# Altium footprint library PcbLib2.PcbLib: 11 footprints
Each footprint in its own frame and in the unit in brackets; x right, y up, seen from the top. Pads: shape width x height; smd on the part's side, far side on the other; paste and mask are expansions set on the pad; w line width, h text height; cw(c..) or ccw(c..) is an arc to the next point about the centre after c.
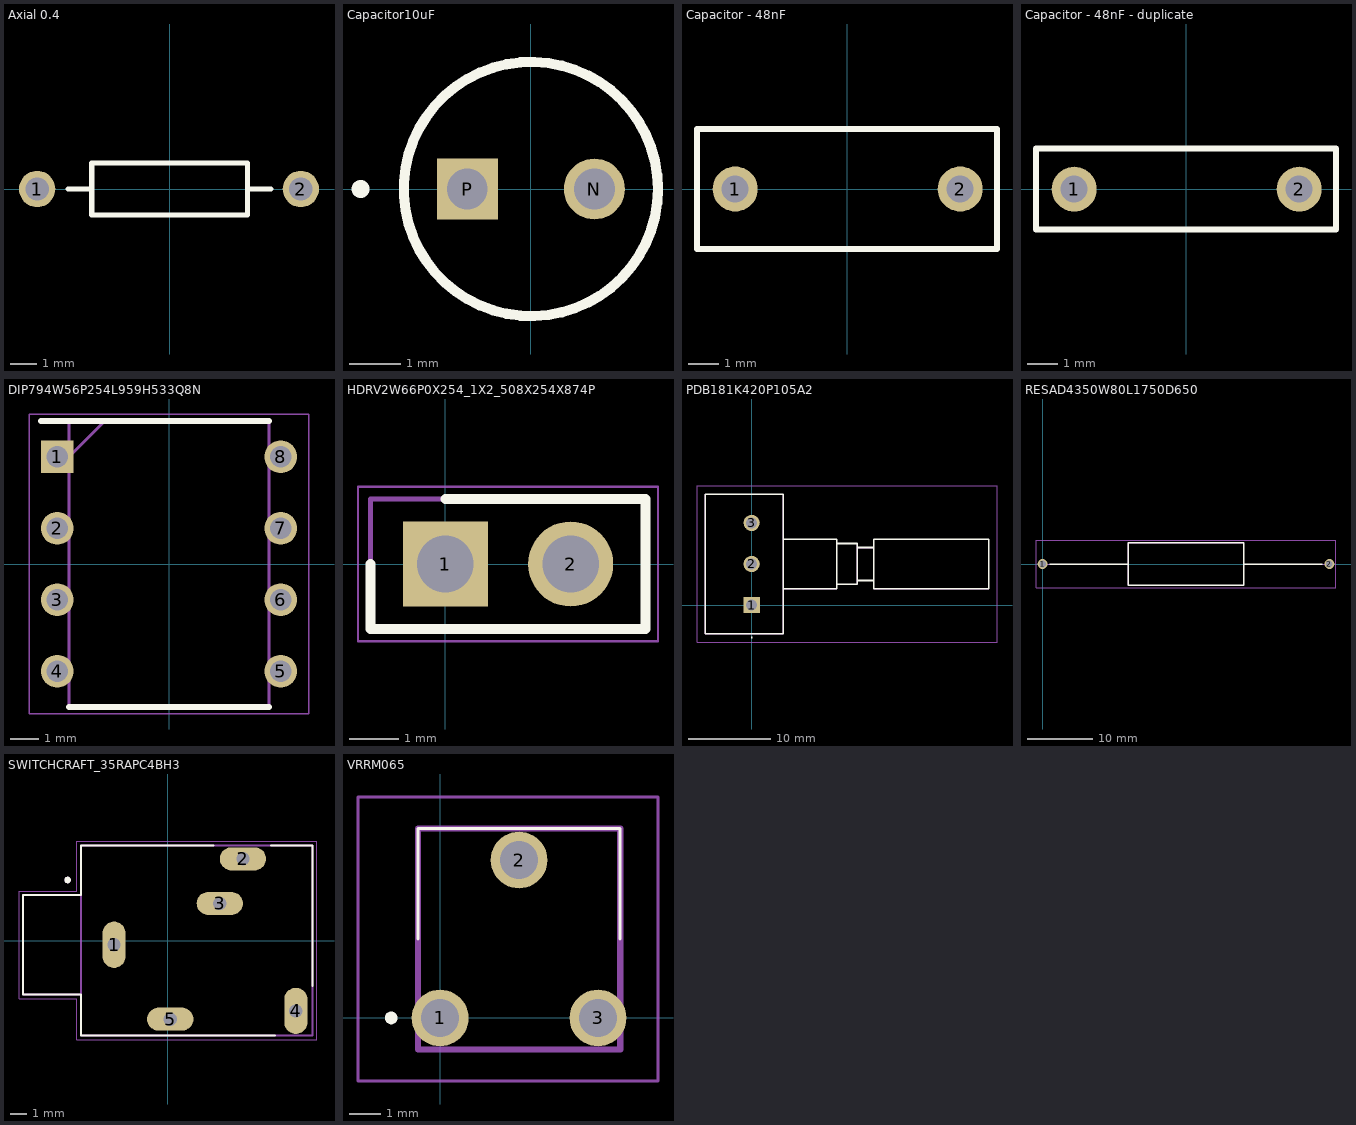
[diagram p0: the footprints below, top view; thin cyan lines are the x and y axes]

## Axial 0.4 [mm]
pads (2):
  round 1.4 hole 0.9: 1(-5.1,0) 2(5.06,0)
Top Overlay:
  lines w0.2: -3.9,0 -3,0 ; 3,0 3.9,0 ; -3,0 -3,1 3,1 3,-1 -3,-1 -3,0
3D body "User Library-RESISTOR, 0_25 W, 0_4 IN LEAD PITCH.STEP": height 2.09, standoff -3.38, extent -5.405,-1.164 5.365,1.165

## Capacitor10uF [mm]
pads (2):
  round 1.2 hole 0.8: N(1.25,0)
  rect 1.2x1.2 hole 0.8: P(-1.25,0)
Top Overlay:
  circle w0.2: c0,0 r2.5
  circle w0.254: c-3.35,0 r0.05
3D body "ECA-1HM100I.STEP": height 12, standoff -16, extent -2.475,-2.587 2.518,2.413

## Capacitor - 48nF [mm]
pads (2):
  round 1.5 hole 0.9: 1(-3.725,0) 2(3.775,0)
Top Overlay:
  lines w0.2: -5,-2 -5,2 -3.725,2 3.775,2 5,2 5,-2 3.775,-2 -3.725,-2 -5,-2
3D body "DE21XSA220KN3AX02F--3DModel-STEP-56544.STEP": height 10.98, standoff -23, extent -4.1,-2.032 4.041,1.968

## Capacitor - 48nF - duplicate [mm]
pads (2):
  round 1.5 hole 0.9: 1(-3.725,0) 2(3.775,0)
Top Overlay:
  lines w0.2: -5,-1.346 -5,1.358 -3.083,1.358 4.417,1.358 5,1.358 5,-1.346 3.121,-1.346 -4.379,-1.346 -5,-1.346

## DIP794W56P254L959H533Q8N [mm]
pads (8):
  rect 1.16x1.16 hole 0.76: 1(-3.97,3.81)
  round 1.16 hole 0.76: 2(-3.97,1.27) 3(-3.97,-1.27) 4(-3.97,-3.81) 5(3.97,-3.81) 6(3.97,-1.27) 7(3.97,1.27) 8(3.97,3.81)
Top Overlay:
  lines w0.2: -4.55,5.08 3.555,5.08 ; -3.555,-5.08 3.555,-5.08
Mechanical 13:
  lines w0.1: -3.555,3.81 -2.285,5.08 ; -3.555,-5.08 -3.555,5.08 3.555,5.08 3.555,-5.08 -3.555,-5.08
Mechanical 15:
  lines w0.05: -4.96,-5.33 -4.96,5.33 4.96,5.33 4.96,-5.33 -4.96,-5.33
3D body "AD620BN.stp": height 5.33, standoff -3.5, extent -4.11,-4.795 4.11,4.795

## HDRV2W66P0X254_1X2_508X254X874P [mm]
pads (2):
  rect 1.725x1.725 / inner round 1.725 / far side rect 1.725x1.725 hole 1.15: 1(0,0)
  round 1.725 hole 1.15: 2(2.54,0)
Top Overlay:
  lines w0.2: -1.52,0 -1.52,-1.32 4.06,-1.32 4.06,1.32 0,1.32
Mechanical 15:
  lines w0.1: -1.52,-1.32 -1.52,1.32 4.06,1.32 4.06,-1.32 -1.52,-1.32
Mechanical 20:
  lines w0.05: -1.77,-1.57 -1.77,1.57 4.31,1.57 4.31,-1.57 -1.77,-1.57
3D body "M20-9990246.stp": height 8.74, standoff -3, extent -1.27,-1.27 3.81,1.27

## PCBComponent_1 [mm]

## PDB181K420P105A2 [mm]
pads (3):
  rect 1.98x1.98 hole 1.32: 1(0,0)
  round 1.98 hole 1.32: 2(0,5) 3(0,10)
Top Overlay:
  lines w0.1: 0,-4 cw(c0,-3.95) 0,-3.9 cw(c0,-3.95) 0,-4
  lines w0.2: 3.85,2 10.35,2 10.35,8 3.85,8 ; 10.35,2.54 12.85,2.54 12.85,7.5 10.35,7.5 ; 12.85,3 14.85,3 ; 12.85,7 14.85,7 ; 14.85,3 14.85,2 28.85,2 28.85,8 14.85,8 14.85,7 ; 14.85,3 14.85,7 ; -5.65,-3.5 -5.65,13.5 3.85,13.5 3.85,-3.5 -5.65,-3.5
Mechanical 15:
  lines w0.1: 3.85,2 10.35,2 10.35,8 3.85,8 ; 10.35,2.54 12.85,2.54 12.85,7.5 10.35,7.5 ; 12.85,3 14.85,3 ; 12.85,7 14.85,7 ; 14.85,3 14.85,2 28.85,2 28.85,8 14.85,8 14.85,7 ; 14.85,3 14.85,7 ; -5.65,-3.5 -5.65,13.5 3.85,13.5 3.85,-3.5 -5.65,-3.5
Mechanical 20:
  lines w0.1: -6.65,-4.5 -6.65,14.5 29.85,14.5 29.85,-4.5 -6.65,-4.5

## RESAD4350W80L1750D650 [mm]
pads (2):
  round 1.5 hole 1: 1(0,0) 2(43.5,0)
Top Overlay:
  lines w0.2: 1.1,0 13,0 ; 30.5,0 42.4,0 ; 13,-3.25 13,3.25 30.5,3.25 30.5,-3.25 13,-3.25
Mechanical 15:
  lines w0.1: 0,0 13,0 ; 30.5,0 43.5,0 ; 13,-3.25 13,3.25 30.5,3.25 30.5,-3.25 13,-3.25
Mechanical 20:
  lines w0.05: -1,-3.6 -1,3.6 44.5,3.6 44.5,-3.6 -1,-3.6
3D body "ROX5SSJ33K.stp": height 6.5, standoff -6.5, extent -0.4,-3.25 43.9,3.25

## SWITCHCRAFT_35RAPC4BH3 [mm]
pads (5):
  oval 1.4x2.8 hole 0.8 square: 1(-3.25,-0.25) 4(7.75,-4.25)
  oval 2.8x1.4 hole 0.8 square: 2(4.55,4.95) 3(3.15,2.25) 5(0.15,-4.75)
Top Overlay:
  circle w0.2: c-6.057,3.67 r0.1
  lines w0.127: 2.75,5.75 -5.25,5.75 -5.25,2.75 -8.75,2.75 -8.75,-3.25 -5.25,-3.25 -5.25,-5.75 6.5,-5.75 ; 6.25,5.75 8.75,5.75 8.75,-2.75
Mechanical 13:
  circle w0.2: c-6.057,3.67 r0.1
  lines w0.127: -5.25,-3.25 -8.75,-3.25 -8.75,2.75 -5.25,2.75 ; -5.25,-3.25 -5.25,-5.75 8.75,-5.75 8.75,5.75 -5.25,5.75 -5.25,2.75 ; -5.25,-3.25 -5.25,2.75
Mechanical 15:
  lines w0.05: -9,-3.5 -5.5,-3.5 -5.5,-6 9,-6 9,6 -5.5,6 -5.5,3 -9,3 -9,-3.5
3D body "35RAPC4BH3.step": height 6.5, standoff -2, extent -8.509,-5.709 8.991,5.791

## VRRM065 [mm]
pads (3):
  round 1.8 hole 1.2: 1(0,0) 2(2.5,5) 3(5,0)
Top Overlay:
  lines w0.1: -0.7,2.5 -0.7,6 5.7,6 5.7,2.5
  lines w0.3: -1.6,0 cw(c-1.55,0) -1.5,0 cw(c-1.55,0) -1.6,0
Mechanical 15:
  lines w0.2: -0.7,-1 5.7,-1 5.7,6 -0.7,6 -0.7,-1
Mechanical 20:
  lines w0.1: -2.6,-2 6.9,-2 6.9,7 -2.6,7 -2.6,-2
3D body "VR_RM065.stp": height 7.6, standoff -5, extent -0.7,-1 5.7,6